# EAGLE library part FP7G50US60_IGBT (library MDB_HOME)
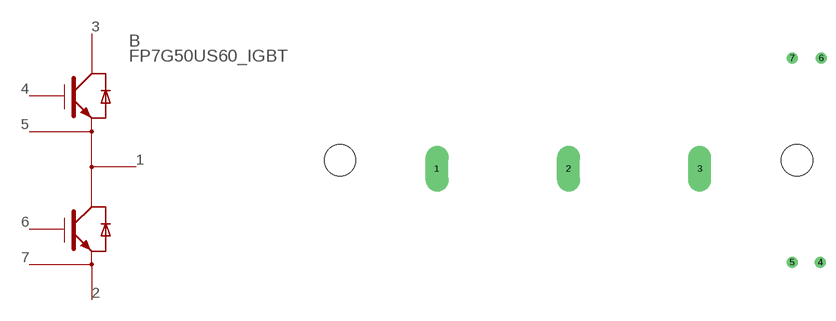
[diagram p13: symbol with the pads of FP7G50US60_POWER_BRICK; footprint FP7G50US60_POWER_BRICK]

Designator prefix B

## FP7G50US60_IGBT_BRICK  [FP7G50US60_POWER_BRICK]
1  1
2  2
3  3
4  4
5  5
6  6
7  7

## Footprint FP7G50US60_POWER_BRICK (pad centres in mm)
drill 1.4 pad 4 long: 1 23.5,16; 2 46.5,16; 3 69.5,16
drill 1 pad 1.93: 4 90.6,-0.4; 5 85.7,-0.4; 6 90.8,35.4; 7 85.7,35.4
hole 5.5 at 6.5,17.5
hole 5.5 at 86.5,17.5